# EAGLE library part ADG791A (library Mine)
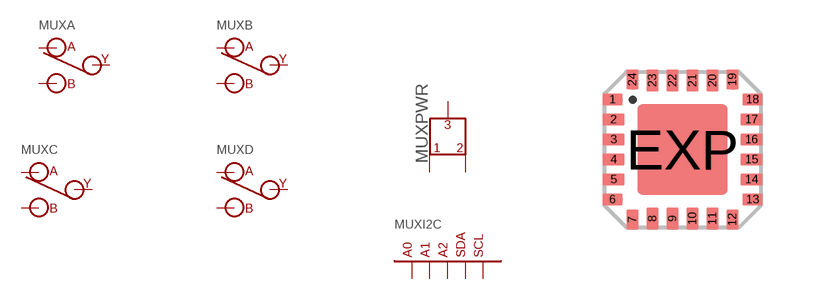
[diagram p8: symbol with the pads of LFCSP24; footprint LFCSP24]

Designator prefix MUX; gates A=2:1_MUX B=2:1_MUX C=2:1_MUX D=2:1_MUX PWR=TRI_PIN I2C=3BIT_I2C_INTERFACE

## ADG791A  [LFCSP24]
1  A:A
2  A:B
3  A:Y
4  B:Y
5  B:B
6  B:A
7  C:A
8  C:B
9  C:Y
10  D:Y
11  D:B
12  D:A
18  I2C:A2
19  I2C:A1
20  I2C:A0
21  I2C:SCL
22  I2C:SDA
23  PWR:3
24  PWR:2
EXP  PWR:1

## Footprint LFCSP24 (pad centres in mm)
smd 0.5 x 0.3: 1 -1.75,1.25; 6 -1.75,-1.25; 13 1.75,-1.25; 18 1.75,1.25
smd 0.55 x 0.3: 2 -1.725,0.75; 3 -1.725,0.25; 4 -1.725,-0.25; 5 -1.725,-0.75; 14 1.725,-0.75; 15 1.725,-0.25; 16 1.725,0.25; 17 1.725,0.75
smd 0.3 x 0.5: 7 -1.25,-1.75; 12 1.25,-1.75; 19 1.25,1.75; 24 -1.25,1.75
smd 0.3 x 0.55: 8 -0.75,-1.725; 9 -0.25,-1.725; 10 0.25,-1.725; 11 0.75,-1.725; 20 0.75,1.725; 21 0.25,1.725; 22 -0.25,1.725; 23 -0.75,1.725
smd 2.25 x 2.25: EXP 0,0